# Altium integrated library Analog Devices Data Converters Analog-to-Digital Converters.IntLib: 2400 symbols (part 36 of 338)
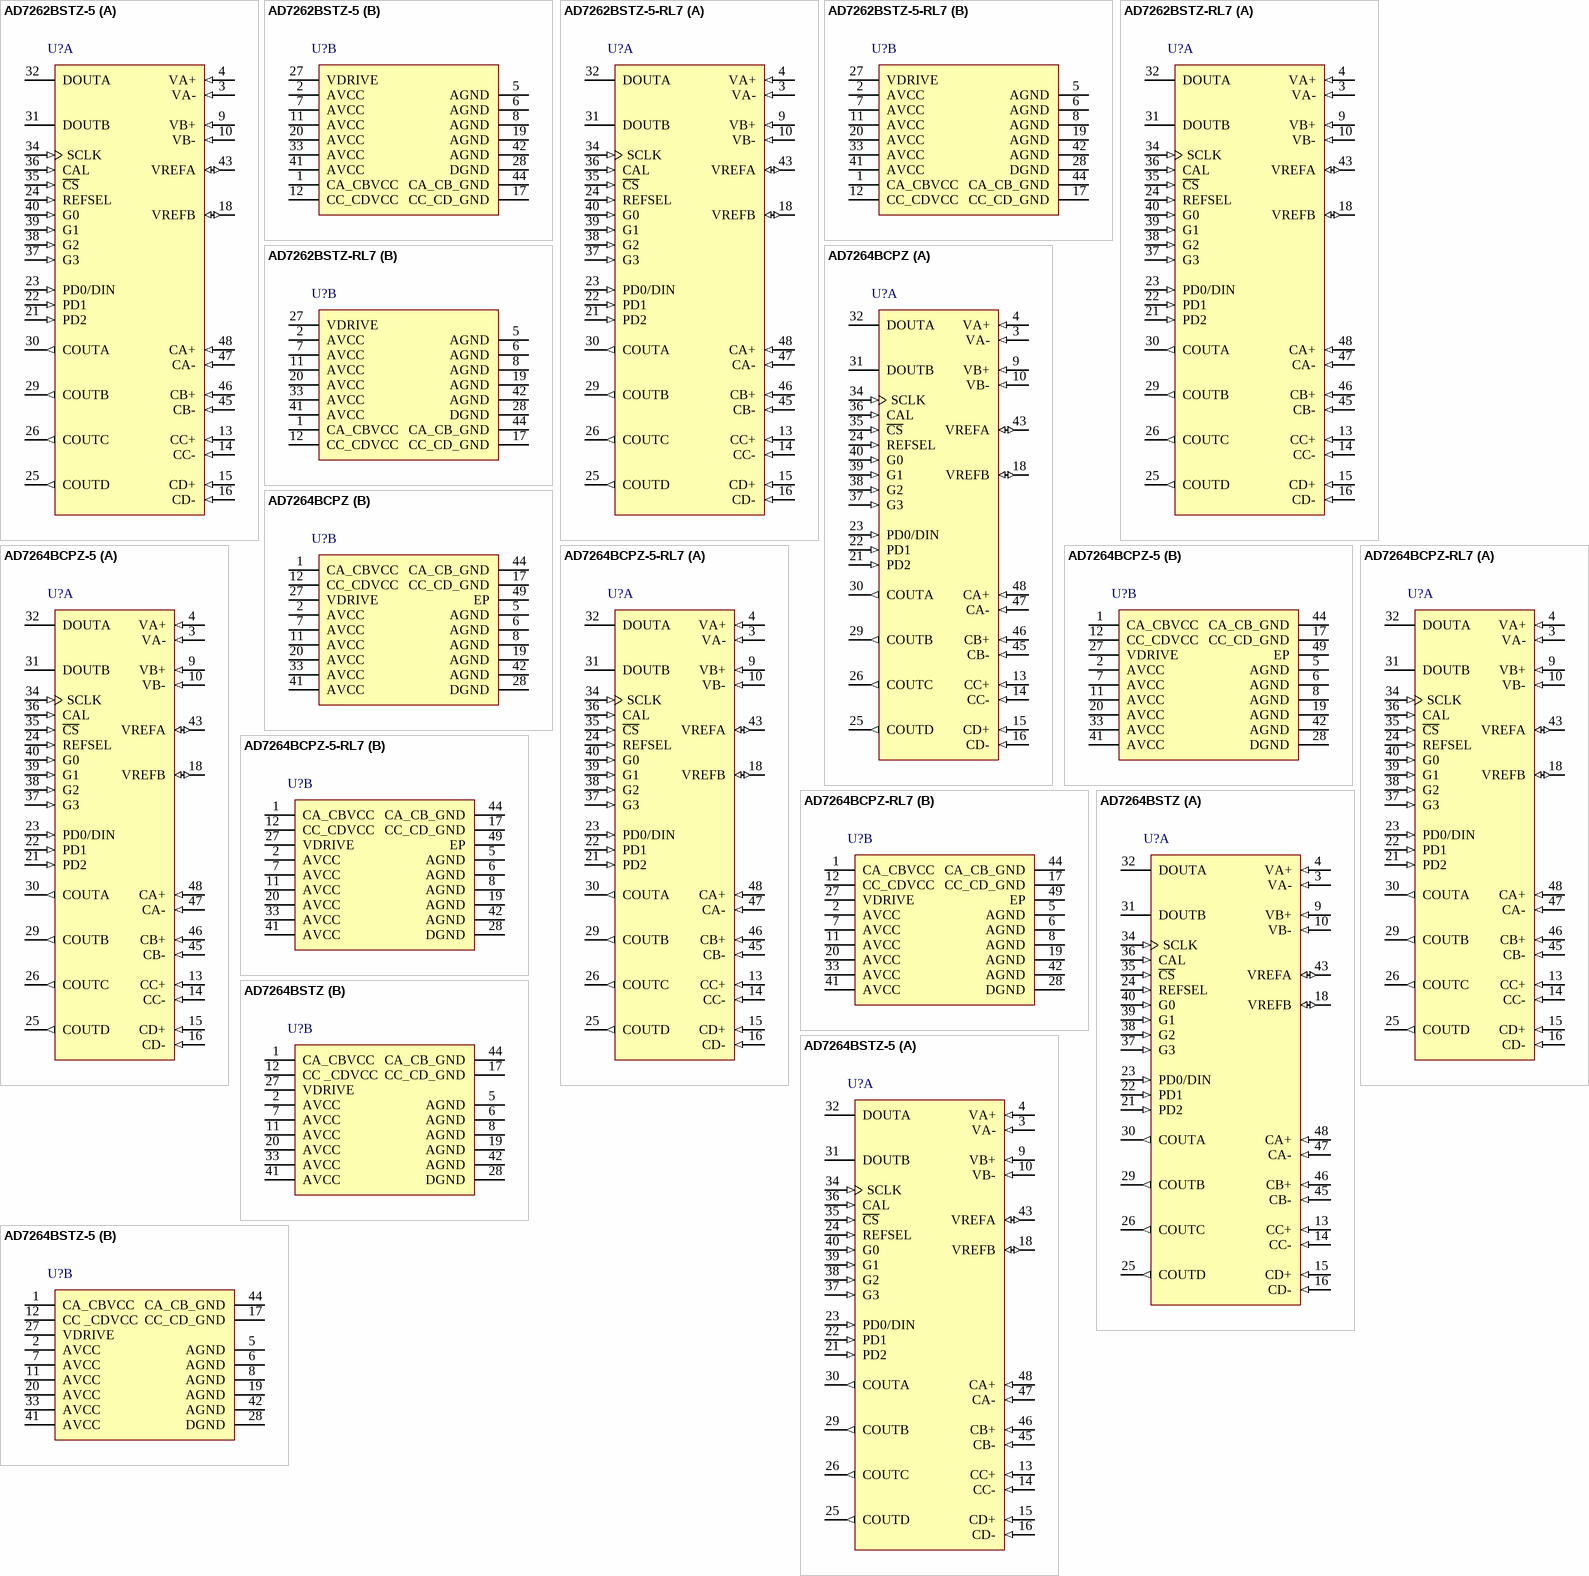
[diagram p175: symbols AD7262BSTZ-5 to AD7264BSTZ-5]

## AD7264BCPZ
designator U?
Dual 14-Bit SAR Analog-to-Digital Converter with Serial, SPI Interface and PGA, Four Comparators, Simultaneous Sampling, 1MSPS, -40 to +105 degC, CP-48-1, Pb-Free, Tray; Part Number: AD7264; Manufacturer: Analog Devices; Resolution (Bits): 14; Channels: 2; Throughput Rate (SPS): 1M; Interface: Ser, SPI; DatasheetVersion: Rev.A; PackageVersion: Jan-2005; PackageReference: CP-48-1; PackageDescription: 48-Lead Lead Frame Chip Scale Package [LFCSP_VQ] 7 x 7 mm Body, Very Thin Quad; RoHS: Y; Packing: Tray; Mounting Technology: Surface Mount; Code_JEDEC: MO-220-VKKD-2; ComponentLink1Description: Manufacturer URL; ComponentLink1URL: http://www.analog.com/en/index.html; ComponentLink2Description: Datasheet; ComponentLink2URL: http://www.analog.com/static/imported-files/data_sheets/AD7264.pdf; ComponentLink3Description: Package Specification; ComponentLink3URL: http://www.analog.com/static/imported-files/packages/PKG_PDF/LFCSP(CP)/CP-48/CP_48_1.pdf; ComponentLink4Description: Product URL; ComponentLink4URL: http://www.analog.com/en/analog-to-digital-converters/ad-converters/ad7264/products/product.html
footprint CP-48-1_N (QFN, 48-Leads, Body 7x7mm, Pitch 0.5mm, Thermal Pad 5.1x5.1mm, IPC Medium Density)
footprint CP-48-1_L (QFN, 48-Leads, Body 7x7mm, Pitch 0.5mm, Thermal Pad 5.1x5.1mm, IPC High Density)
footprint CP-48-1_M (QFN, 48-Leads, Body 7x7mm, Pitch 0.5mm, Thermal Pad 5.1x5.1mm, IPC Low Density)
part A pins: 3 VA- (in) "Analog Inputs of ADC A. True differential input pair.", 4 VA+ (in) "Analog Inputs of ADC A. True differential input pair.", 9 VB+ (in) "Analog Inputs of ADC B. True differential input pair.", 10 VB- (in) "Analog Inputs of ADC B. True differential input pair.", 13 CC+ (in) "Comparator Inputs. These pins are the inverting and noninverting analog inputs for Comparator C and Comparator D. These two comparators offer very fast propagation delays.", 14 CC- (in) "Comparator Inputs. These pins are the inverting and noninverting analog inputs for Comparator C and Comparator D. These two comparators offer very fast propagation delays.", 15 CD+ (in) "Comparator Inputs. These pins are the inverting and noninverting analog inputs for Comparator C and Comparator D. These two comparators offer very fast propagation delays.", 16 CD- (in) "Comparator Inputs. These pins are the inverting and noninverting analog inputs for Comparator C and Comparator D. These two comparators offer very fast propagation delays.", 18 VREFB (io) "Reference Input/Output. Decoupling capacitors are connected to these pins to decouple the internal reference buffer for each respective ADC. Typically, 1 uF capacitors are required to decouple the reference. Provided the (See Datasheet)", 21 PD2 (in) "Logic Input. Places the AD7264 in the selected shutdown mode in conjunction with the PD1 and PD0 pins. See Table 7.", 22 PD1 (in) "Logic Input. Places the AD7264 in the selected shutdown mode in conjunction with the PD2 and PD0 pins. See Table 7.", 23 PD0/DIN (in) "Logic Input/Data Input. Places the AD7264 in the selected shutdown mode in conjunction with the PD2 and PD1 pins. See Table 7. If all gain selection pins, G0 to G3, are tied low, this pin acts as the data input pin and all (See Datasheet)", 24 REFSEL (in) "Internal/External Reference Selection. Logic input. If this pin is tied to a logic high voltage, the on-chip 2.5 V reference is used as the reference source for both ADC A and ADC B. If the REFSEL pin is tied to GND, an (See Datasheet)", 25 COUTD (out) "Comparator Outputs. These pins provide a CMOS (push-pull) output from each respective comparator. These are digital output pins with logic levels determined by the VDRIVE supply.", 26 COUTC (out) "Comparator Outputs. These pins provide a CMOS (push-pull) output from each respective comparator. These are digital output pins with logic levels determined by the VDRIVE supply.", 29 COUTB (out) "Comparator Outputs. These pins provide a CMOS (push-pull) output from each respective comparator. These are digital output pins with logic levels determined by the VDRIVE supply.", 30 COUTA (out) "Comparator Outputs. These pins provide a CMOS (push-pull) output from each respective comparator. These are digital output pins with logic levels determined by the VDRIVE supply.", 31 DOUTB (hiz) "Serial Data Outputs. The data output from the AD7264 is supplied to each pin as a serial data stream in twos complement format. The bits are clocked out on the falling edge of the SCLK input. A total of 33 SCLK cycles are (See Datasheet)", 32 DOUTA (hiz) "Serial Data Outputs. The data output from the AD7264 is supplied to each pin as a serial data stream in twos complement format. The bits are clocked out on the falling edge of the SCLK input. A total of 33 SCLK cycles are (See Datasheet)", 34 SCLK (in) "Serial Clock. Logic input. A serial clock input provides the SCLK for accessing the data from the AD7264. This clock is also used as the clock source for the conversion process. A minimum of 33 clocks are required to perform (See Datasheet)", 35 ~{CS} (in) "Chip Select. Active low logic input. This input initiates conversions on the AD7264.", 36 CAL (in) "Logic Input. Initiates an internal offset calibration.", 37 G3 (in) "Logic Inputs. These pins are used to program the gain setting of the front-end amplifiers. If all four pins are tied low, the PD0/DIN pin acts as a data input pin, DIN, and all programming is made via the control register. (See Datasheet)", 38 G2 (in) "Logic Inputs. These pins are used to program the gain setting of the front-end amplifiers. If all four pins are tied low, the PD0/DIN pin acts as a data input pin, DIN, and all programming is made via the control register. (See Datasheet)", 39 G1 (in) "Logic Inputs. These pins are used to program the gain setting of the front-end amplifiers. If all four pins are tied low, the PD0/DIN pin acts as a data input pin, DIN, and all programming is made via the control register. (See Datasheet)", 40 G0 (in) "Logic Inputs. These pins are used to program the gain setting of the front-end amplifiers. If all four pins are tied low, the PD0/DIN pin acts as a data input pin, DIN, and all programming is made via the control register. (See Datasheet)", 43 VREFA (io) "Reference Input/Output. Decoupling capacitors are connected to these pins to decouple the internal reference buffer for each respective ADC. Typically, 1 uF capacitors are required to decouple the reference. Provided the (See Datasheet)", 45 CB- (in) "Comparator Inputs. These pins are the inverting and noninverting analog inputs for Comparator A and Comparator B. These two comparators have very low power consumption.", 46 CB+ (in) "Comparator Inputs. These pins are the inverting and noninverting analog inputs for Comparator A and Comparator B. These two comparators have very low power consumption.", 47 CA- (in) "Comparator Inputs. These pins are the inverting and noninverting analog inputs for Comparator A and Comparator B. These two comparators have very low power consumption.", 48 CA+ (in) "Comparator Inputs. These pins are the inverting and noninverting analog inputs for Comparator A and Comparator B. These two comparators have very low power consumption."
part B pins: 1 CA_CBVCC (power) "Comparator Supply Voltage, 2.7 V to 5.25 V. This is the supply voltage for Comparator A and Comparator B. This supply should be decoupled to CA_CB_GND. AVCC, CC_CDVCC, and CA_CBVCC can be tied together.", 2 AVCC (power) "Analog Supply Voltage, 4.75 V to 5.25 V. This is the supply voltage for the analog circuitry on the AD7264. All AVCC pins can be tied together. This supply should be decoupled to AGND with a 100 nF ceramic capacitor per (See Datasheet)", 5 AGND (power) "Analog Ground. Ground reference point for all analog circuitry on the AD7264. All analog input signals and any external reference signal should be referred to this AGND voltage. All AGND pins should be connected to the AGND (See Datasheet)", 6 AGND (power) "Analog Ground. Ground reference point for all analog circuitry on the AD7264. All analog input signals and any external reference signal should be referred to this AGND voltage. All AGND pins should be connected to the AGND (See Datasheet)", 7 AVCC (power) "Analog Supply Voltage, 4.75 V to 5.25 V. This is the supply voltage for the analog circuitry on the AD7264. All AVCC pins can be tied together. This supply should be decoupled to AGND with a 100 nF ceramic capacitor per (See Datasheet)", 8 AGND (power) "Analog Ground. Ground reference point for all analog circuitry on the AD7264. All analog input signals and any external reference signal should be referred to this AGND voltage. All AGND pins should be connected to the AGND (See Datasheet)", 11 AVCC (power) "Analog Supply Voltage, 4.75 V to 5.25 V. This is the supply voltage for the analog circuitry on the AD7264. All AVCC pins can be tied together. This supply should be decoupled to AGND with a 100 nF ceramic capacitor per (See Datasheet)", 12 CC_CDVCC (power) "Comparator Supply Voltage, 2.7 V to 5.25 V. This is the supply voltage for Comparator C and Comparator D. This supply should be decoupled to CC_CD_GND. AVCC, CC_CDVCC, and CA_CBVCC can be tied together.", 17 CC_CD_GND (power) "Comparator Ground. Ground reference point for all comparator circuitry on the AD7264. Both the CA_CB_GND and CC_CD_GND pins should connect to the GND plane of a system and can be tied to AGND. The DGND, AGND, CA_CB_GND, and (See Datasheet)", 19 AGND (power) "Analog Ground. Ground reference point for all analog circuitry on the AD7264. All analog input signals and any external reference signal should be referred to this AGND voltage. All AGND pins should be connected to the AGND (See Datasheet)", 20 AVCC (power) "Analog Supply Voltage, 4.75 V to 5.25 V. This is the supply voltage for the analog circuitry on the AD7264. All AVCC pins can be tied together. This supply should be decoupled to AGND with a 100 nF ceramic capacitor per (See Datasheet)", 27 VDRIVE (power) "Logic Power Supply Input, 2.7 V to 5.25 V. The voltage supplied at this pin determines at what voltage the interface operates, including the comparator outputs. This pin should be decoupled to DGND.", 28 DGND (power) "Digital Ground. Ground reference point for all digital circuitry on the AD7264. The DGND pin should be connected to the DGND plane of a system. The DGND and AGND voltages should ideally be at the same potential and must not (See Datasheet)", 33 AVCC (power) "Analog Supply Voltage, 4.75 V to 5.25 V. This is the supply voltage for the analog circuitry on the AD7264. All AVCC pins can be tied together. This supply should be decoupled to AGND with a 100 nF ceramic capacitor per (See Datasheet)", 41 AVCC (power) "Analog Supply Voltage, 4.75 V to 5.25 V. This is the supply voltage for the analog circuitry on the AD7264. All AVCC pins can be tied together. This supply should be decoupled to AGND with a 100 nF ceramic capacitor per (See Datasheet)", 42 AGND (power) "Analog Ground. Ground reference point for all analog circuitry on the AD7264. All analog input signals and any external reference signal should be referred to this AGND voltage. All AGND pins should be connected to the AGND (See Datasheet)", 44 CA_CB_GND (power) "Comparator Ground. Ground reference point for all comparator circuitry on the AD7264. Both the CA_CB_GND and CC_CD_GND pins should connect to the GND plane of a system and can be tied to AGND. The DGND, AGND, CA_CB_GND, and (See Datasheet)", 49 EP (power) "Exposed pad"

## AD7264BCPZ-5
designator U?
Dual 14-Bit SAR Analog-to-Digital Converter with Serial, SPI Interface and PGA, Four Comparators, Simultaneous Sampling, 500KSPS, -40 to +105 degC, CP-48-1, Pb-Free, Tray; Part Number: AD7264-5; Manufacturer: Analog Devices; Resolution (Bits): 14; Channels: 2; Throughput Rate (SPS): 500K; Interface: Ser, SPI; DatasheetVersion: Rev.A; PackageVersion: Jan-2005; PackageReference: CP-48-1; PackageDescription: 48-Lead Lead Frame Chip Scale Package [LFCSP_VQ] 7 x 7 mm Body, Very Thin Quad; RoHS: Y; Packing: Tray; Mounting Technology: Surface Mount; Code_JEDEC: MO-220-VKKD-2; ComponentLink1Description: Manufacturer URL; ComponentLink1URL: http://www.analog.com/en/index.html; ComponentLink2Description: Datasheet; ComponentLink2URL: http://www.analog.com/static/imported-files/data_sheets/AD7264.pdf; ComponentLink3Description: Package Specification; ComponentLink3URL: http://www.analog.com/static/imported-files/packages/PKG_PDF/LFCSP(CP)/CP-48/CP_48_1.pdf; ComponentLink4Description: Product URL; ComponentLink4URL: http://www.analog.com/en/analog-to-digital-converters/ad-converters/ad7264/products/product.html
footprint CP-48-1_N (QFN, 48-Leads, Body 7x7mm, Pitch 0.5mm, Thermal Pad 5.1x5.1mm, IPC Medium Density)
footprint CP-48-1_L (QFN, 48-Leads, Body 7x7mm, Pitch 0.5mm, Thermal Pad 5.1x5.1mm, IPC High Density)
footprint CP-48-1_M (QFN, 48-Leads, Body 7x7mm, Pitch 0.5mm, Thermal Pad 5.1x5.1mm, IPC Low Density)
part A pins: 3 VA- (in) "Analog Inputs of ADC A. True differential input pair.", 4 VA+ (in) "Analog Inputs of ADC A. True differential input pair.", 9 VB+ (in) "Analog Inputs of ADC B. True differential input pair.", 10 VB- (in) "Analog Inputs of ADC B. True differential input pair.", 13 CC+ (in) "Comparator Inputs. These pins are the inverting and noninverting analog inputs for Comparator C and Comparator D. These two comparators offer very fast propagation delays.", 14 CC- (in) "Comparator Inputs. These pins are the inverting and noninverting analog inputs for Comparator C and Comparator D. These two comparators offer very fast propagation delays.", 15 CD+ (in) "Comparator Inputs. These pins are the inverting and noninverting analog inputs for Comparator C and Comparator D. These two comparators offer very fast propagation delays.", 16 CD- (in) "Comparator Inputs. These pins are the inverting and noninverting analog inputs for Comparator C and Comparator D. These two comparators offer very fast propagation delays.", 18 VREFB (io) "Reference Input/Output. Decoupling capacitors are connected to these pins to decouple the internal reference buffer for each respective ADC. Typically, 1 uF capacitors are required to decouple the reference. Provided the (See Datasheet)", 21 PD2 (in) "Logic Input. Places the AD7264 in the selected shutdown mode in conjunction with the PD1 and PD0 pins. See Table 7.", 22 PD1 (in) "Logic Input. Places the AD7264 in the selected shutdown mode in conjunction with the PD2 and PD0 pins. See Table 7.", 23 PD0/DIN (in) "Logic Input/Data Input. Places the AD7264 in the selected shutdown mode in conjunction with the PD2 and PD1 pins. See Table 7. If all gain selection pins, G0 to G3, are tied low, this pin acts as the data input pin and all (See Datasheet)", 24 REFSEL (in) "Internal/External Reference Selection. Logic input. If this pin is tied to a logic high voltage, the on-chip 2.5 V reference is used as the reference source for both ADC A and ADC B. If the REFSEL pin is tied to GND, an (See Datasheet)", 25 COUTD (out) "Comparator Outputs. These pins provide a CMOS (push-pull) output from each respective comparator. These are digital output pins with logic levels determined by the VDRIVE supply.", 26 COUTC (out) "Comparator Outputs. These pins provide a CMOS (push-pull) output from each respective comparator. These are digital output pins with logic levels determined by the VDRIVE supply.", 29 COUTB (out) "Comparator Outputs. These pins provide a CMOS (push-pull) output from each respective comparator. These are digital output pins with logic levels determined by the VDRIVE supply.", 30 COUTA (out) "Comparator Outputs. These pins provide a CMOS (push-pull) output from each respective comparator. These are digital output pins with logic levels determined by the VDRIVE supply.", 31 DOUTB (hiz) "Serial Data Outputs. The data output from the AD7264 is supplied to each pin as a serial data stream in twos complement format. The bits are clocked out on the falling edge of the SCLK input. A total of 33 SCLK cycles are (See Datasheet)", 32 DOUTA (hiz) "Serial Data Outputs. The data output from the AD7264 is supplied to each pin as a serial data stream in twos complement format. The bits are clocked out on the falling edge of the SCLK input. A total of 33 SCLK cycles are (See Datasheet)", 34 SCLK (in) "Serial Clock. Logic input. A serial clock input provides the SCLK for accessing the data from the AD7264. This clock is also used as the clock source for the conversion process. A minimum of 33 clocks are required to perform (See Datasheet)", 35 ~{CS} (in) "Chip Select. Active low logic input. This input initiates conversions on the AD7264.", 36 CAL (in) "Logic Input. Initiates an internal offset calibration.", 37 G3 (in) "Logic Inputs. These pins are used to program the gain setting of the front-end amplifiers. If all four pins are tied low, the PD0/DIN pin acts as a data input pin, DIN, and all programming is made via the control register. (See Datasheet)", 38 G2 (in) "Logic Inputs. These pins are used to program the gain setting of the front-end amplifiers. If all four pins are tied low, the PD0/DIN pin acts as a data input pin, DIN, and all programming is made via the control register. (See Datasheet)", 39 G1 (in) "Logic Inputs. These pins are used to program the gain setting of the front-end amplifiers. If all four pins are tied low, the PD0/DIN pin acts as a data input pin, DIN, and all programming is made via the control register. (See Datasheet)", 40 G0 (in) "Logic Inputs. These pins are used to program the gain setting of the front-end amplifiers. If all four pins are tied low, the PD0/DIN pin acts as a data input pin, DIN, and all programming is made via the control register. (See Datasheet)", 43 VREFA (io) "Reference Input/Output. Decoupling capacitors are connected to these pins to decouple the internal reference buffer for each respective ADC. Typically, 1 uF capacitors are required to decouple the reference. Provided the (See Datasheet)", 45 CB- (in) "Comparator Inputs. These pins are the inverting and noninverting analog inputs for Comparator A and Comparator B. These two comparators have very low power consumption.", 46 CB+ (in) "Comparator Inputs. These pins are the inverting and noninverting analog inputs for Comparator A and Comparator B. These two comparators have very low power consumption.", 47 CA- (in) "Comparator Inputs. These pins are the inverting and noninverting analog inputs for Comparator A and Comparator B. These two comparators have very low power consumption.", 48 CA+ (in) "Comparator Inputs. These pins are the inverting and noninverting analog inputs for Comparator A and Comparator B. These two comparators have very low power consumption."
part B pins: 1 CA_CBVCC (power) "Comparator Supply Voltage, 2.7 V to 5.25 V. This is the supply voltage for Comparator A and Comparator B. This supply should be decoupled to CA_CB_GND. AVCC, CC_CDVCC, and CA_CBVCC can be tied together.", 2 AVCC (power) "Analog Supply Voltage, 4.75 V to 5.25 V. This is the supply voltage for the analog circuitry on the AD7264. All AVCC pins can be tied together. This supply should be decoupled to AGND with a 100 nF ceramic capacitor per (See Datasheet)", 5 AGND (power) "Analog Ground. Ground reference point for all analog circuitry on the AD7264. All analog input signals and any external reference signal should be referred to this AGND voltage. All AGND pins should be connected to the AGND (See Datasheet)", 6 AGND (power) "Analog Ground. Ground reference point for all analog circuitry on the AD7264. All analog input signals and any external reference signal should be referred to this AGND voltage. All AGND pins should be connected to the AGND (See Datasheet)", 7 AVCC (power) "Analog Supply Voltage, 4.75 V to 5.25 V. This is the supply voltage for the analog circuitry on the AD7264. All AVCC pins can be tied together. This supply should be decoupled to AGND with a 100 nF ceramic capacitor per (See Datasheet)", 8 AGND (power) "Analog Ground. Ground reference point for all analog circuitry on the AD7264. All analog input signals and any external reference signal should be referred to this AGND voltage. All AGND pins should be connected to the AGND (See Datasheet)", 11 AVCC (power) "Analog Supply Voltage, 4.75 V to 5.25 V. This is the supply voltage for the analog circuitry on the AD7264. All AVCC pins can be tied together. This supply should be decoupled to AGND with a 100 nF ceramic capacitor per (See Datasheet)", 12 CC_CDVCC (power) "Comparator Supply Voltage, 2.7 V to 5.25 V. This is the supply voltage for Comparator C and Comparator D. This supply should be decoupled to CC_CD_GND. AVCC, CC_CDVCC, and CA_CBVCC can be tied together.", 17 CC_CD_GND (power) "Comparator Ground. Ground reference point for all comparator circuitry on the AD7264. Both the CA_CB_GND and CC_CD_GND pins should connect to the GND plane of a system and can be tied to AGND. The DGND, AGND, CA_CB_GND, and (See Datasheet)", 19 AGND (power) "Analog Ground. Ground reference point for all analog circuitry on the AD7264. All analog input signals and any external reference signal should be referred to this AGND voltage. All AGND pins should be connected to the AGND (See Datasheet)", 20 AVCC (power) "Analog Supply Voltage, 4.75 V to 5.25 V. This is the supply voltage for the analog circuitry on the AD7264. All AVCC pins can be tied together. This supply should be decoupled to AGND with a 100 nF ceramic capacitor per (See Datasheet)", 27 VDRIVE (power) "Logic Power Supply Input, 2.7 V to 5.25 V. The voltage supplied at this pin determines at what voltage the interface operates, including the comparator outputs. This pin should be decoupled to DGND.", 28 DGND (power) "Digital Ground. Ground reference point for all digital circuitry on the AD7264. The DGND pin should be connected to the DGND plane of a system. The DGND and AGND voltages should ideally be at the same potential and must not (See Datasheet)", 33 AVCC (power) "Analog Supply Voltage, 4.75 V to 5.25 V. This is the supply voltage for the analog circuitry on the AD7264. All AVCC pins can be tied together. This supply should be decoupled to AGND with a 100 nF ceramic capacitor per (See Datasheet)", 41 AVCC (power) "Analog Supply Voltage, 4.75 V to 5.25 V. This is the supply voltage for the analog circuitry on the AD7264. All AVCC pins can be tied together. This supply should be decoupled to AGND with a 100 nF ceramic capacitor per (See Datasheet)", 42 AGND (power) "Analog Ground. Ground reference point for all analog circuitry on the AD7264. All analog input signals and any external reference signal should be referred to this AGND voltage. All AGND pins should be connected to the AGND (See Datasheet)", 44 CA_CB_GND (power) "Comparator Ground. Ground reference point for all comparator circuitry on the AD7264. Both the CA_CB_GND and CC_CD_GND pins should connect to the GND plane of a system and can be tied to AGND. The DGND, AGND, CA_CB_GND, and (See Datasheet)", 49 EP (power) "Exposed pad"

## AD7264BCPZ-5-RL7
designator U?
Dual 14-Bit SAR Analog-to-Digital Converter with Serial, SPI Interface and PGA, Four Comparators, Simultaneous Sampling, 500KSPS, -40 to +105 degC, CP-48-1, Pb-Free, Reel; Part Number: AD7264-5; Manufacturer: Analog Devices; Resolution (Bits): 14; Channels: 2; Throughput Rate (SPS): 500K; Interface: Ser, SPI; DatasheetVersion: Rev.A; PackageVersion: Jan-2005; PackageReference: CP-48-1; PackageDescription: 48-Lead Lead Frame Chip Scale Package [LFCSP_VQ] 7 x 7 mm Body, Very Thin Quad; RoHS: Y; Packing: Reel; Mounting Technology: Surface Mount; Code_JEDEC: MO-220-VKKD-2; ComponentLink1Description: Manufacturer URL; ComponentLink1URL: http://www.analog.com/en/index.html; ComponentLink2Description: Datasheet; ComponentLink2URL: http://www.analog.com/static/imported-files/data_sheets/AD7264.pdf; ComponentLink3Description: Package Specification; ComponentLink3URL: http://www.analog.com/static/imported-files/packages/PKG_PDF/LFCSP(CP)/CP-48/CP_48_1.pdf; ComponentLink4Description: Product URL; ComponentLink4URL: http://www.analog.com/en/analog-to-digital-converters/ad-converters/ad7264/products/product.html
footprint CP-48-1_N (QFN, 48-Leads, Body 7x7mm, Pitch 0.5mm, Thermal Pad 5.1x5.1mm, IPC Medium Density)
footprint CP-48-1_L (QFN, 48-Leads, Body 7x7mm, Pitch 0.5mm, Thermal Pad 5.1x5.1mm, IPC High Density)
footprint CP-48-1_M (QFN, 48-Leads, Body 7x7mm, Pitch 0.5mm, Thermal Pad 5.1x5.1mm, IPC Low Density)
part A pins: 3 VA- (in) "Analog Inputs of ADC A. True differential input pair.", 4 VA+ (in) "Analog Inputs of ADC A. True differential input pair.", 9 VB+ (in) "Analog Inputs of ADC B. True differential input pair.", 10 VB- (in) "Analog Inputs of ADC B. True differential input pair.", 13 CC+ (in) "Comparator Inputs. These pins are the inverting and noninverting analog inputs for Comparator C and Comparator D. These two comparators offer very fast propagation delays.", 14 CC- (in) "Comparator Inputs. These pins are the inverting and noninverting analog inputs for Comparator C and Comparator D. These two comparators offer very fast propagation delays.", 15 CD+ (in) "Comparator Inputs. These pins are the inverting and noninverting analog inputs for Comparator C and Comparator D. These two comparators offer very fast propagation delays.", 16 CD- (in) "Comparator Inputs. These pins are the inverting and noninverting analog inputs for Comparator C and Comparator D. These two comparators offer very fast propagation delays.", 18 VREFB (io) "Reference Input/Output. Decoupling capacitors are connected to these pins to decouple the internal reference buffer for each respective ADC. Typically, 1 uF capacitors are required to decouple the reference. Provided the (See Datasheet)", 21 PD2 (in) "Logic Input. Places the AD7264 in the selected shutdown mode in conjunction with the PD1 and PD0 pins. See Table 7.", 22 PD1 (in) "Logic Input. Places the AD7264 in the selected shutdown mode in conjunction with the PD2 and PD0 pins. See Table 7.", 23 PD0/DIN (in) "Logic Input/Data Input. Places the AD7264 in the selected shutdown mode in conjunction with the PD2 and PD1 pins. See Table 7. If all gain selection pins, G0 to G3, are tied low, this pin acts as the data input pin and all (See Datasheet)", 24 REFSEL (in) "Internal/External Reference Selection. Logic input. If this pin is tied to a logic high voltage, the on-chip 2.5 V reference is used as the reference source for both ADC A and ADC B. If the REFSEL pin is tied to GND, an (See Datasheet)", 25 COUTD (out) "Comparator Outputs. These pins provide a CMOS (push-pull) output from each respective comparator. These are digital output pins with logic levels determined by the VDRIVE supply.", 26 COUTC (out) "Comparator Outputs. These pins provide a CMOS (push-pull) output from each respective comparator. These are digital output pins with logic levels determined by the VDRIVE supply.", 29 COUTB (out) "Comparator Outputs. These pins provide a CMOS (push-pull) output from each respective comparator. These are digital output pins with logic levels determined by the VDRIVE supply.", 30 COUTA (out) "Comparator Outputs. These pins provide a CMOS (push-pull) output from each respective comparator. These are digital output pins with logic levels determined by the VDRIVE supply.", 31 DOUTB (hiz) "Serial Data Outputs. The data output from the AD7264 is supplied to each pin as a serial data stream in twos complement format. The bits are clocked out on the falling edge of the SCLK input. A total of 33 SCLK cycles are (See Datasheet)", 32 DOUTA (hiz) "Serial Data Outputs. The data output from the AD7264 is supplied to each pin as a serial data stream in twos complement format. The bits are clocked out on the falling edge of the SCLK input. A total of 33 SCLK cycles are (See Datasheet)", 34 SCLK (in) "Serial Clock. Logic input. A serial clock input provides the SCLK for accessing the data from the AD7264. This clock is also used as the clock source for the conversion process. A minimum of 33 clocks are required to perform (See Datasheet)", 35 ~{CS} (in) "Chip Select. Active low logic input. This input initiates conversions on the AD7264.", 36 CAL (in) "Logic Input. Initiates an internal offset calibration.", 37 G3 (in) "Logic Inputs. These pins are used to program the gain setting of the front-end amplifiers. If all four pins are tied low, the PD0/DIN pin acts as a data input pin, DIN, and all programming is made via the control register. (See Datasheet)", 38 G2 (in) "Logic Inputs. These pins are used to program the gain setting of the front-end amplifiers. If all four pins are tied low, the PD0/DIN pin acts as a data input pin, DIN, and all programming is made via the control register. (See Datasheet)", 39 G1 (in) "Logic Inputs. These pins are used to program the gain setting of the front-end amplifiers. If all four pins are tied low, the PD0/DIN pin acts as a data input pin, DIN, and all programming is made via the control register. (See Datasheet)", 40 G0 (in) "Logic Inputs. These pins are used to program the gain setting of the front-end amplifiers. If all four pins are tied low, the PD0/DIN pin acts as a data input pin, DIN, and all programming is made via the control register. (See Datasheet)", 43 VREFA (io) "Reference Input/Output. Decoupling capacitors are connected to these pins to decouple the internal reference buffer for each respective ADC. Typically, 1 uF capacitors are required to decouple the reference. Provided the (See Datasheet)", 45 CB- (in) "Comparator Inputs. These pins are the inverting and noninverting analog inputs for Comparator A and Comparator B. These two comparators have very low power consumption.", 46 CB+ (in) "Comparator Inputs. These pins are the inverting and noninverting analog inputs for Comparator A and Comparator B. These two comparators have very low power consumption.", 47 CA- (in) "Comparator Inputs. These pins are the inverting and noninverting analog inputs for Comparator A and Comparator B. These two comparators have very low power consumption.", 48 CA+ (in) "Comparator Inputs. These pins are the inverting and noninverting analog inputs for Comparator A and Comparator B. These two comparators have very low power consumption."
part B pins: 1 CA_CBVCC (power) "Comparator Supply Voltage, 2.7 V to 5.25 V. This is the supply voltage for Comparator A and Comparator B. This supply should be decoupled to CA_CB_GND. AVCC, CC_CDVCC, and CA_CBVCC can be tied together.", 2 AVCC (power) "Analog Supply Voltage, 4.75 V to 5.25 V. This is the supply voltage for the analog circuitry on the AD7264. All AVCC pins can be tied together. This supply should be decoupled to AGND with a 100 nF ceramic capacitor per (See Datasheet)", 5 AGND (power) "Analog Ground. Ground reference point for all analog circuitry on the AD7264. All analog input signals and any external reference signal should be referred to this AGND voltage. All AGND pins should be connected to the AGND (See Datasheet)", 6 AGND (power) "Analog Ground. Ground reference point for all analog circuitry on the AD7264. All analog input signals and any external reference signal should be referred to this AGND voltage. All AGND pins should be connected to the AGND (See Datasheet)", 7 AVCC (power) "Analog Supply Voltage, 4.75 V to 5.25 V. This is the supply voltage for the analog circuitry on the AD7264. All AVCC pins can be tied together. This supply should be decoupled to AGND with a 100 nF ceramic capacitor per (See Datasheet)", 8 AGND (power) "Analog Ground. Ground reference point for all analog circuitry on the AD7264. All analog input signals and any external reference signal should be referred to this AGND voltage. All AGND pins should be connected to the AGND (See Datasheet)", 11 AVCC (power) "Analog Supply Voltage, 4.75 V to 5.25 V. This is the supply voltage for the analog circuitry on the AD7264. All AVCC pins can be tied together. This supply should be decoupled to AGND with a 100 nF ceramic capacitor per (See Datasheet)", 12 CC_CDVCC (power) "Comparator Supply Voltage, 2.7 V to 5.25 V. This is the supply voltage for Comparator C and Comparator D. This supply should be decoupled to CC_CD_GND. AVCC, CC_CDVCC, and CA_CBVCC can be tied together.", 17 CC_CD_GND (power) "Comparator Ground. Ground reference point for all comparator circuitry on the AD7264. Both the CA_CB_GND and CC_CD_GND pins should connect to the GND plane of a system and can be tied to AGND. The DGND, AGND, CA_CB_GND, and (See Datasheet)", 19 AGND (power) "Analog Ground. Ground reference point for all analog circuitry on the AD7264. All analog input signals and any external reference signal should be referred to this AGND voltage. All AGND pins should be connected to the AGND (See Datasheet)", 20 AVCC (power) "Analog Supply Voltage, 4.75 V to 5.25 V. This is the supply voltage for the analog circuitry on the AD7264. All AVCC pins can be tied together. This supply should be decoupled to AGND with a 100 nF ceramic capacitor per (See Datasheet)", 27 VDRIVE (power) "Logic Power Supply Input, 2.7 V to 5.25 V. The voltage supplied at this pin determines at what voltage the interface operates, including the comparator outputs. This pin should be decoupled to DGND.", 28 DGND (power) "Digital Ground. Ground reference point for all digital circuitry on the AD7264. The DGND pin should be connected to the DGND plane of a system. The DGND and AGND voltages should ideally be at the same potential and must not (See Datasheet)", 33 AVCC (power) "Analog Supply Voltage, 4.75 V to 5.25 V. This is the supply voltage for the analog circuitry on the AD7264. All AVCC pins can be tied together. This supply should be decoupled to AGND with a 100 nF ceramic capacitor per (See Datasheet)", 41 AVCC (power) "Analog Supply Voltage, 4.75 V to 5.25 V. This is the supply voltage for the analog circuitry on the AD7264. All AVCC pins can be tied together. This supply should be decoupled to AGND with a 100 nF ceramic capacitor per (See Datasheet)", 42 AGND (power) "Analog Ground. Ground reference point for all analog circuitry on the AD7264. All analog input signals and any external reference signal should be referred to this AGND voltage. All AGND pins should be connected to the AGND (See Datasheet)", 44 CA_CB_GND (power) "Comparator Ground. Ground reference point for all comparator circuitry on the AD7264. Both the CA_CB_GND and CC_CD_GND pins should connect to the GND plane of a system and can be tied to AGND. The DGND, AGND, CA_CB_GND, and (See Datasheet)", 49 EP (power) "Exposed pad"

## AD7264BCPZ-RL7
designator U?
Dual 14-Bit SAR Analog-to-Digital Converter with Serial, SPI Interface and PGA, Four Comparators, Simultaneous Sampling, 1MSPS, -40 to +105 degC, CP-48-1, Pb-Free, Reel; Part Number: AD7264; Manufacturer: Analog Devices; Resolution (Bits): 14; Channels: 2; Throughput Rate (SPS): 1M; Interface: Ser, SPI; DatasheetVersion: Rev.A; PackageVersion: Jan-2005; PackageReference: CP-48-1; PackageDescription: 48-Lead Lead Frame Chip Scale Package [LFCSP_VQ] 7 x 7 mm Body, Very Thin Quad; RoHS: Y; Packing: Reel; Mounting Technology: Surface Mount; Code_JEDEC: MO-220-VKKD-2; ComponentLink1Description: Manufacturer URL; ComponentLink1URL: http://www.analog.com/en/index.html; ComponentLink2Description: Datasheet; ComponentLink2URL: http://www.analog.com/static/imported-files/data_sheets/AD7264.pdf; ComponentLink3Description: Package Specification; ComponentLink3URL: http://www.analog.com/static/imported-files/packages/PKG_PDF/LFCSP(CP)/CP-48/CP_48_1.pdf; ComponentLink4Description: Product URL; ComponentLink4URL: http://www.analog.com/en/analog-to-digital-converters/ad-converters/ad7264/products/product.html
footprint CP-48-1_N (QFN, 48-Leads, Body 7x7mm, Pitch 0.5mm, Thermal Pad 5.1x5.1mm, IPC Medium Density)
footprint CP-48-1_L (QFN, 48-Leads, Body 7x7mm, Pitch 0.5mm, Thermal Pad 5.1x5.1mm, IPC High Density)
footprint CP-48-1_M (QFN, 48-Leads, Body 7x7mm, Pitch 0.5mm, Thermal Pad 5.1x5.1mm, IPC Low Density)
part A pins: 3 VA- (in) "Analog Inputs of ADC A. True differential input pair.", 4 VA+ (in) "Analog Inputs of ADC A. True differential input pair.", 9 VB+ (in) "Analog Inputs of ADC B. True differential input pair.", 10 VB- (in) "Analog Inputs of ADC B. True differential input pair.", 13 CC+ (in) "Comparator Inputs. These pins are the inverting and noninverting analog inputs for Comparator C and Comparator D. These two comparators offer very fast propagation delays.", 14 CC- (in) "Comparator Inputs. These pins are the inverting and noninverting analog inputs for Comparator C and Comparator D. These two comparators offer very fast propagation delays.", 15 CD+ (in) "Comparator Inputs. These pins are the inverting and noninverting analog inputs for Comparator C and Comparator D. These two comparators offer very fast propagation delays.", 16 CD- (in) "Comparator Inputs. These pins are the inverting and noninverting analog inputs for Comparator C and Comparator D. These two comparators offer very fast propagation delays.", 18 VREFB (io) "Reference Input/Output. Decoupling capacitors are connected to these pins to decouple the internal reference buffer for each respective ADC. Typically, 1 uF capacitors are required to decouple the reference. Provided the (See Datasheet)", 21 PD2 (in) "Logic Input. Places the AD7264 in the selected shutdown mode in conjunction with the PD1 and PD0 pins. See Table 7.", 22 PD1 (in) "Logic Input. Places the AD7264 in the selected shutdown mode in conjunction with the PD2 and PD0 pins. See Table 7.", 23 PD0/DIN (in) "Logic Input/Data Input. Places the AD7264 in the selected shutdown mode in conjunction with the PD2 and PD1 pins. See Table 7. If all gain selection pins, G0 to G3, are tied low, this pin acts as the data input pin and all (See Datasheet)", 24 REFSEL (in) "Internal/External Reference Selection. Logic input. If this pin is tied to a logic high voltage, the on-chip 2.5 V reference is used as the reference source for both ADC A and ADC B. If the REFSEL pin is tied to GND, an (See Datasheet)", 25 COUTD (out) "Comparator Outputs. These pins provide a CMOS (push-pull) output from each respective comparator. These are digital output pins with logic levels determined by the VDRIVE supply.", 26 COUTC (out) "Comparator Outputs. These pins provide a CMOS (push-pull) output from each respective comparator. These are digital output pins with logic levels determined by the VDRIVE supply.", 29 COUTB (out) "Comparator Outputs. These pins provide a CMOS (push-pull) output from each respective comparator. These are digital output pins with logic levels determined by the VDRIVE supply.", 30 COUTA (out) "Comparator Outputs. These pins provide a CMOS (push-pull) output from each respective comparator. These are digital output pins with logic levels determined by the VDRIVE supply.", 31 DOUTB (hiz) "Serial Data Outputs. The data output from the AD7264 is supplied to each pin as a serial data stream in twos complement format. The bits are clocked out on the falling edge of the SCLK input. A total of 33 SCLK cycles are (See Datasheet)", 32 DOUTA (hiz) "Serial Data Outputs. The data output from the AD7264 is supplied to each pin as a serial data stream in twos complement format. The bits are clocked out on the falling edge of the SCLK input. A total of 33 SCLK cycles are (See Datasheet)", 34 SCLK (in) "Serial Clock. Logic input. A serial clock input provides the SCLK for accessing the data from the AD7264. This clock is also used as the clock source for the conversion process. A minimum of 33 clocks are required to perform (See Datasheet)", 35 ~{CS} (in) "Chip Select. Active low logic input. This input initiates conversions on the AD7264.", 36 CAL (in) "Logic Input. Initiates an internal offset calibration.", 37 G3 (in) "Logic Inputs. These pins are used to program the gain setting of the front-end amplifiers. If all four pins are tied low, the PD0/DIN pin acts as a data input pin, DIN, and all programming is made via the control register. (See Datasheet)", 38 G2 (in) "Logic Inputs. These pins are used to program the gain setting of the front-end amplifiers. If all four pins are tied low, the PD0/DIN pin acts as a data input pin, DIN, and all programming is made via the control register. (See Datasheet)", 39 G1 (in) "Logic Inputs. These pins are used to program the gain setting of the front-end amplifiers. If all four pins are tied low, the PD0/DIN pin acts as a data input pin, DIN, and all programming is made via the control register. (See Datasheet)", 40 G0 (in) "Logic Inputs. These pins are used to program the gain setting of the front-end amplifiers. If all four pins are tied low, the PD0/DIN pin acts as a data input pin, DIN, and all programming is made via the control register. (See Datasheet)", 43 VREFA (io) "Reference Input/Output. Decoupling capacitors are connected to these pins to decouple the internal reference buffer for each respective ADC. Typically, 1 uF capacitors are required to decouple the reference. Provided the (See Datasheet)", 45 CB- (in) "Comparator Inputs. These pins are the inverting and noninverting analog inputs for Comparator A and Comparator B. These two comparators have very low power consumption.", 46 CB+ (in) "Comparator Inputs. These pins are the inverting and noninverting analog inputs for Comparator A and Comparator B. These two comparators have very low power consumption.", 47 CA- (in) "Comparator Inputs. These pins are the inverting and noninverting analog inputs for Comparator A and Comparator B. These two comparators have very low power consumption.", 48 CA+ (in) "Comparator Inputs. These pins are the inverting and noninverting analog inputs for Comparator A and Comparator B. These two comparators have very low power consumption."
part B pins: 1 CA_CBVCC (power) "Comparator Supply Voltage, 2.7 V to 5.25 V. This is the supply voltage for Comparator A and Comparator B. This supply should be decoupled to CA_CB_GND. AVCC, CC_CDVCC, and CA_CBVCC can be tied together.", 2 AVCC (power) "Analog Supply Voltage, 4.75 V to 5.25 V. This is the supply voltage for the analog circuitry on the AD7264. All AVCC pins can be tied together. This supply should be decoupled to AGND with a 100 nF ceramic capacitor per (See Datasheet)", 5 AGND (power) "Analog Ground. Ground reference point for all analog circuitry on the AD7264. All analog input signals and any external reference signal should be referred to this AGND voltage. All AGND pins should be connected to the AGND (See Datasheet)", 6 AGND (power) "Analog Ground. Ground reference point for all analog circuitry on the AD7264. All analog input signals and any external reference signal should be referred to this AGND voltage. All AGND pins should be connected to the AGND (See Datasheet)", 7 AVCC (power) "Analog Supply Voltage, 4.75 V to 5.25 V. This is the supply voltage for the analog circuitry on the AD7264. All AVCC pins can be tied together. This supply should be decoupled to AGND with a 100 nF ceramic capacitor per (See Datasheet)", 8 AGND (power) "Analog Ground. Ground reference point for all analog circuitry on the AD7264. All analog input signals and any external reference signal should be referred to this AGND voltage. All AGND pins should be connected to the AGND (See Datasheet)", 11 AVCC (power) "Analog Supply Voltage, 4.75 V to 5.25 V. This is the supply voltage for the analog circuitry on the AD7264. All AVCC pins can be tied together. This supply should be decoupled to AGND with a 100 nF ceramic capacitor per (See Datasheet)", 12 CC_CDVCC (power) "Comparator Supply Voltage, 2.7 V to 5.25 V. This is the supply voltage for Comparator C and Comparator D. This supply should be decoupled to CC_CD_GND. AVCC, CC_CDVCC, and CA_CBVCC can be tied together.", 17 CC_CD_GND (power) "Comparator Ground. Ground reference point for all comparator circuitry on the AD7264. Both the CA_CB_GND and CC_CD_GND pins should connect to the GND plane of a system and can be tied to AGND. The DGND, AGND, CA_CB_GND, and (See Datasheet)", 19 AGND (power) "Analog Ground. Ground reference point for all analog circuitry on the AD7264. All analog input signals and any external reference signal should be referred to this AGND voltage. All AGND pins should be connected to the AGND (See Datasheet)", 20 AVCC (power) "Analog Supply Voltage, 4.75 V to 5.25 V. This is the supply voltage for the analog circuitry on the AD7264. All AVCC pins can be tied together. This supply should be decoupled to AGND with a 100 nF ceramic capacitor per (See Datasheet)", 27 VDRIVE (power) "Logic Power Supply Input, 2.7 V to 5.25 V. The voltage supplied at this pin determines at what voltage the interface operates, including the comparator outputs. This pin should be decoupled to DGND.", 28 DGND (power) "Digital Ground. Ground reference point for all digital circuitry on the AD7264. The DGND pin should be connected to the DGND plane of a system. The DGND and AGND voltages should ideally be at the same potential and must not (See Datasheet)", 33 AVCC (power) "Analog Supply Voltage, 4.75 V to 5.25 V. This is the supply voltage for the analog circuitry on the AD7264. All AVCC pins can be tied together. This supply should be decoupled to AGND with a 100 nF ceramic capacitor per (See Datasheet)", 41 AVCC (power) "Analog Supply Voltage, 4.75 V to 5.25 V. This is the supply voltage for the analog circuitry on the AD7264. All AVCC pins can be tied together. This supply should be decoupled to AGND with a 100 nF ceramic capacitor per (See Datasheet)", 42 AGND (power) "Analog Ground. Ground reference point for all analog circuitry on the AD7264. All analog input signals and any external reference signal should be referred to this AGND voltage. All AGND pins should be connected to the AGND (See Datasheet)", 44 CA_CB_GND (power) "Comparator Ground. Ground reference point for all comparator circuitry on the AD7264. Both the CA_CB_GND and CC_CD_GND pins should connect to the GND plane of a system and can be tied to AGND. The DGND, AGND, CA_CB_GND, and (See Datasheet)", 49 EP (power) "Exposed pad"